# Altium schematic symbol library Schlib1.SchLib: 11 symbols
Pins are listed as number, name and electrical type; pins without a type are passive.

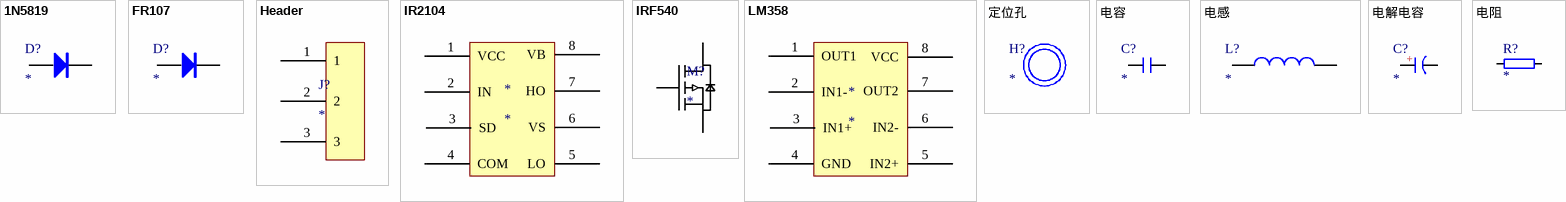
[diagram p0: symbols 1N5819 to 电阻]

## 1N5819
designator D?
footprint SOD-123 (2.7x1.6X1.1mm（长宽高，不包括引脚）)
pins: 1 A, 2 K

## FR107
designator D?
footprint SOD-123 (2.7x1.6X1.1mm（长宽高，不包括引脚）)
pins: 1 A, 2 K

## Header
designator J?
footprint HDR2.54-LI-3P (排针，3脚)
footprint KF128-3.81-3P (螺钉式接线端子，脚距3.81mm)
pins: 1, 2, 3

## IR2104
designator *
footprint SOIC-8
pins: 1 VCC, 2 IN, 3 SD, 4 COM, 5 LO, 6 VS, 7 HO, 8 VB

## IRF540
designator M?
footprint TO220A (220，3脚晶体管)
pins: 1 G, 2 D, 3 S

## LM358
designator *
footprint SOP8_M (5*6*1.8mm（长宽高）)
pins: 1 OUT1, 2 IN1-, 3 IN1+, 4 GND, 5 IN2+, 6 IN2-, 7 OUT2, 8 VCC

## 定位孔
designator H?
footprint M3x10_L (M3铜柱，长：10mm)

## 电容
designator C?
footprint C 0603 (无极性贴片电容)
footprint C 1206 (无极性贴片电容)
pins: 1, 2

## 电感
designator L?
pins: 1, 2

## 电解电容
designator C?
pins: 1 A, 2 K
text: +

## 电阻
designator R?
footprint R 0603 (1/10W贴片电阻)
footprint R 1206_M (1/4W贴片电阻)
pins: 1, 2